# Altium schematic symbol library Fuses.SchLib: 1 symbol
Pins are listed as number, name and electrical type; pins without a type are passive.

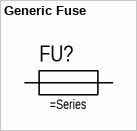
[diagram p0: symbol Generic Fuse]

## Generic Fuse
designator FU?
Generic Surface Mount Fuse
pins: 1, 2